# EAGLE library part PIN_HEADER_5*2 (library 08_CONECTOR)
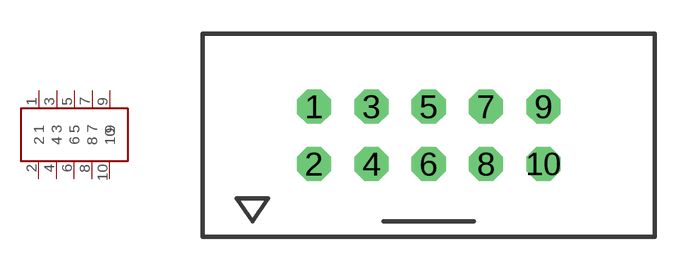
[diagram p2: symbol with the pads of PIN_HEADER_5*2; footprint PIN_HEADER_5*2]

Designator prefix -

## PIN_HEADER_52  [PIN_HEADER_5*2]
1  1
2  2
3  3
4  4
5  5
6  6
7  7
8  8
9  9
10  10

## Footprint PIN_HEADER_5*2 (pad centres in mm)
drill 1 octagon: 1 -5.08,1.27; 2 -5.08,-1.27; 3 -2.54,1.27; 4 -2.54,-1.27; 5 0,1.27; 6 0,-1.27; 7 2.54,1.27; 8 2.54,-1.27; 9 5.08,1.27; 10 5.08,-1.27